# EAGLE library part BM28N0.6-6DS/2-0.35V (library Braille Cell Eagle Library)
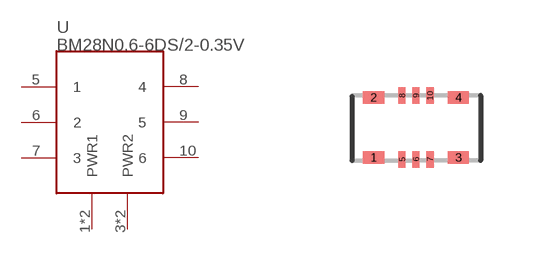
[diagram p0: symbol with the pads of BM28N0.6-6DS/2-0.35V; footprint BM28N0.6-6DS/2-0.35V]

Designator prefix -

## BM28N0.6-6DS/2-0.35V  [BM28N0.6-6DS/2-0.35V]
1  PWR1
2  PWR1
3  PWR2
4  PWR2
5  1
6  2
7  3
8  4
9  5
10  6

## Footprint BM28N0.6-6DS/2-0.35V (pad centres in mm)
smd 0.53 x 0.31: 1 -0.27,-0.16; 2 -0.27,1.34; 3 1.85,-0.16; 4 1.85,1.34
smd 0.18 x 0.41: 5 0.44,-0.205; 6 0.79,-0.205; 7 1.14,-0.205; 8 0.44,1.385; 9 0.79,1.385; 10 1.14,1.385